# Altium footprint library BAT_1072.PcbLib: 1 footprints
Each footprint in its own frame and in the unit in brackets; x right, y up, seen from the top. Pads: shape width x height; smd on the part's side, far side on the other; paste and mask are expansions set on the pad; w line width, h text height; cw(c..) or ccw(c..) is an arc to the next point about the centre after c.
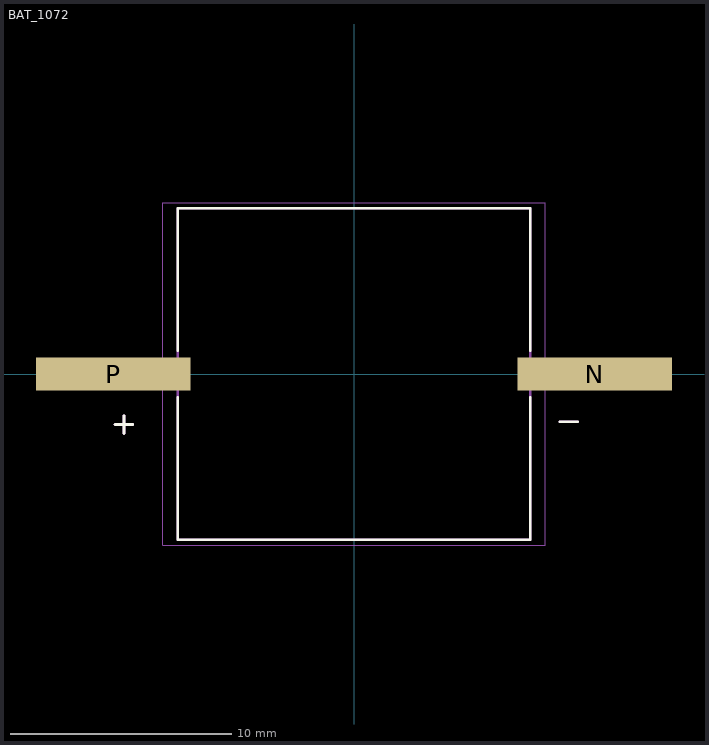
[diagram p0: the footprint, top view; thin cyan lines are the x and y axes]

## BAT_1072 [mm]
height 3.7
pads (2):
  rect 7x1.5 smd: N(10.9,0) P(-10.9,0)
Top Overlay:
  lines w0.127: -10.814,-2.286 -10.014,-2.286 ; -10.414,-2.686 -10.414,-1.886 ; -7.975,-1.07 -7.975,-7.5 7.975,-7.5 7.975,-1.07 ; -7.975,1.07 -7.975,7.5 7.975,7.5 7.975,1.07 ; 9.327,-2.159 10.127,-2.159
Mechanical 13:
  lines w0.127: -10.814,-2.286 -10.014,-2.286 ; -10.414,-2.686 -10.414,-1.886 ; 9.327,-2.159 10.127,-2.159 ; -7.975,-7.5 7.975,-7.5 7.975,7.5 -7.975,7.5 -7.975,-7.5
Mechanical 15:
  lines w0.05: -8.65,-7.75 8.65,-7.75 8.65,7.75 -8.65,7.75 -8.65,-7.75
3D body "User Library-CR2032 Battery Holder.step": height 5.3, standoff -3.75, extent -14.5,-10 14.5,10